# Altium schematic symbol library LM2665.Schlib: 1 symbol
Pins are listed as number, name and electrical type; pins without a type are passive.

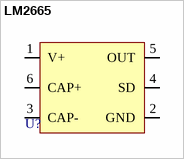
[diagram p0: symbol LM2665]

## LM2665
designator U?
pins: 1 V+ (power), 2 GND (power), 3 CAP-, 4 SD, 5 OUT, 6 CAP+